# Altium footprint library SOD-923.PcbLib: 1 footprints
Each footprint in its own frame and in the unit in brackets; x right, y up, seen from the top. Pads: shape width x height; smd on the part's side, far side on the other; paste and mask are expansions set on the pad; w line width, h text height; cw(c..) or ccw(c..) is an arc to the next point about the centre after c.
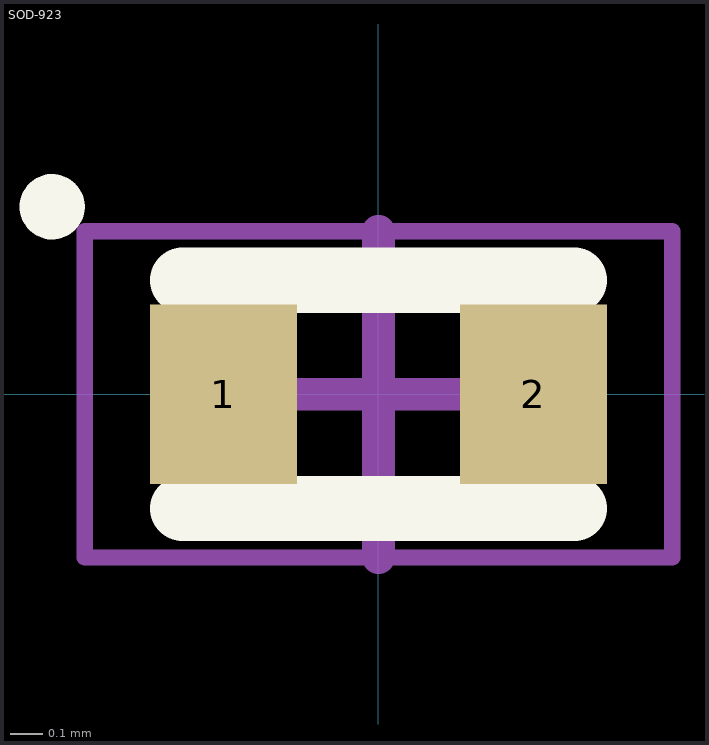
[diagram p0: the footprint, top view; thin cyan lines are the x and y axes]

## SOD-923 [mm] "SOD-923 Footprint"
height 0.37
pads (2):
  rect 0.45x0.55 smd: 1(-0.475,0) 2(0.475,0)
Top Overlay:
  circle w0.1: c-1,0.575 r0.05
  lines w0.2: -0.6,-0.35 0.6,-0.35 ; -0.6,0.35 0.6,0.35
Mechanical 13:
  lines w0.1: -0.475,-0.325 -0.475,0.325 0.475,0.325 0.475,-0.325 -0.475,-0.325
Mechanical 15:
  lines w0.05: -0.9,-0.5 -0.9,0.5 0.9,0.5 0.9,-0.5 -0.9,-0.5
  lines w0.1: -0.5,0 0.5,0 ; 0,-0.5 0,0.5
3D body: height 0.37, standoff 0, extent -0.475,-0.325 0.475,0.325